# EAGLE library part NCP1854FCCT1G (library custom_library)
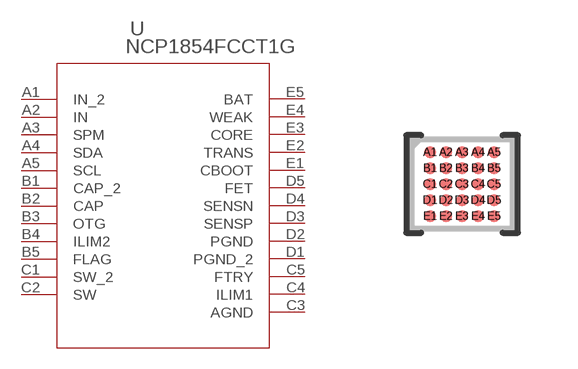
[diagram p1: symbol with the pads of BGA25_2P55X2P2_ONS; footprint BGA25_2P55X2P2_ONS]

Designator prefix U

## NCP1854FCCT1G (COPYRIGHT: Copyright (C) 2024 Ultra Librarian. All rights reserved.; MANUFACTURER_PART_NUMBER: NCP1854FCCT1G; MFR_NAME: onsemi)  [BGA25_2P55X2P2_ONS]
A1  IN_2  in
A2  IN  in
A3  SPM  in
A4  SDA
A5  SCL  in
B1  CAP_2  pas
B2  CAP  pas
B3  OTG  in
B4  ILIM2  in
B5  FLAG  out
C1  SW_2  out
C2  SW  out
C3  AGND  pwr
C4  ILIM1  in
C5  FTRY  in
D1  PGND_2  pwr
D2  PGND  pwr
D3  SENSP  in
D4  SENSN  in
D5  FET  out
E1  CBOOT
E2  TRANS  out
E3  CORE  out
E4  WEAK  out
E5  BAT  in

## Footprint BGA25_2P55X2P2_ONS (pad centres in mm)
smd 0.305 x 0.305: A1 -0.8,0.8; A2 -0.4,0.8; A3 0,0.8; A4 0.4,0.8; A5 0.8,0.8; B1 -0.8,0.4; B2 -0.4,0.4; B3 0,0.4; B4 0.4,0.4; B5 0.8,0.4; C1 -0.8,0; C2 -0.4,0; C3 0,0; C4 0.4,0; C5 0.8,0; D1 -0.8,-0.4; D2 -0.4,-0.4; D3 0,-0.4; D4 0.4,-0.4; D5 0.8,-0.4; E1 -0.8,-0.8; E2 -0.4,-0.8; E3 0,-0.8; E4 0.4,-0.8; E5 0.8,-0.8